# EAGLE library part LM75A (library 0_jc-custom-eagle6)
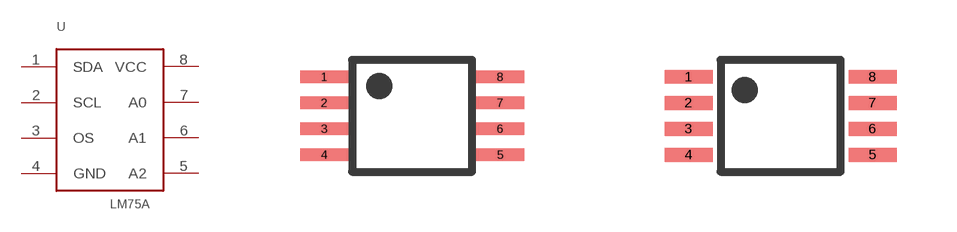
[diagram p15: symbol with the pads of TSSOP8; footprints TSSOP8, TSSOP8-3MM]

Designator prefix -

## LM75AADP  [TSSOP8]
1  SDA
2  SCL
3  OS
4  GND
5  A2
6  A1
7  A0
8  VCC

## LM75AJC-TEST  [TSSOP8-3MM]
Pads as for TSSOP8

## Footprint TSSOP8 (pad centres in mm)
Thin Shrink Small Outline Package 0.65mm Pitch, 3.0mm x 3.0mm
smd 1.2 x 0.305: 1 -2.2,0.975; 2 -2.2,0.325; 3 -2.2,-0.325; 4 -2.2,-0.975; 5 2.2,-0.975; 6 2.2,-0.325; 7 2.2,0.325; 8 2.2,0.975

## Footprint TSSOP8-3MM (pad centres in mm)
smd 1.2 x 0.35: 1 -2.6,0.975; 2 -2.6,0.325; 3 -2.6,-0.325; 4 -2.6,-0.975; 5 2,-0.975; 6 2,-0.325; 7 2,0.325; 8 2,0.975